# Altium footprint library LowPowerDevPCB.PcbLib: 16 footprints
Each footprint in its own frame and in the unit in brackets; x right, y up, seen from the top. Pads: shape width x height; smd on the part's side, far side on the other; paste and mask are expansions set on the pad; w line width, h text height; cw(c..) or ccw(c..) is an arc to the next point about the centre after c.
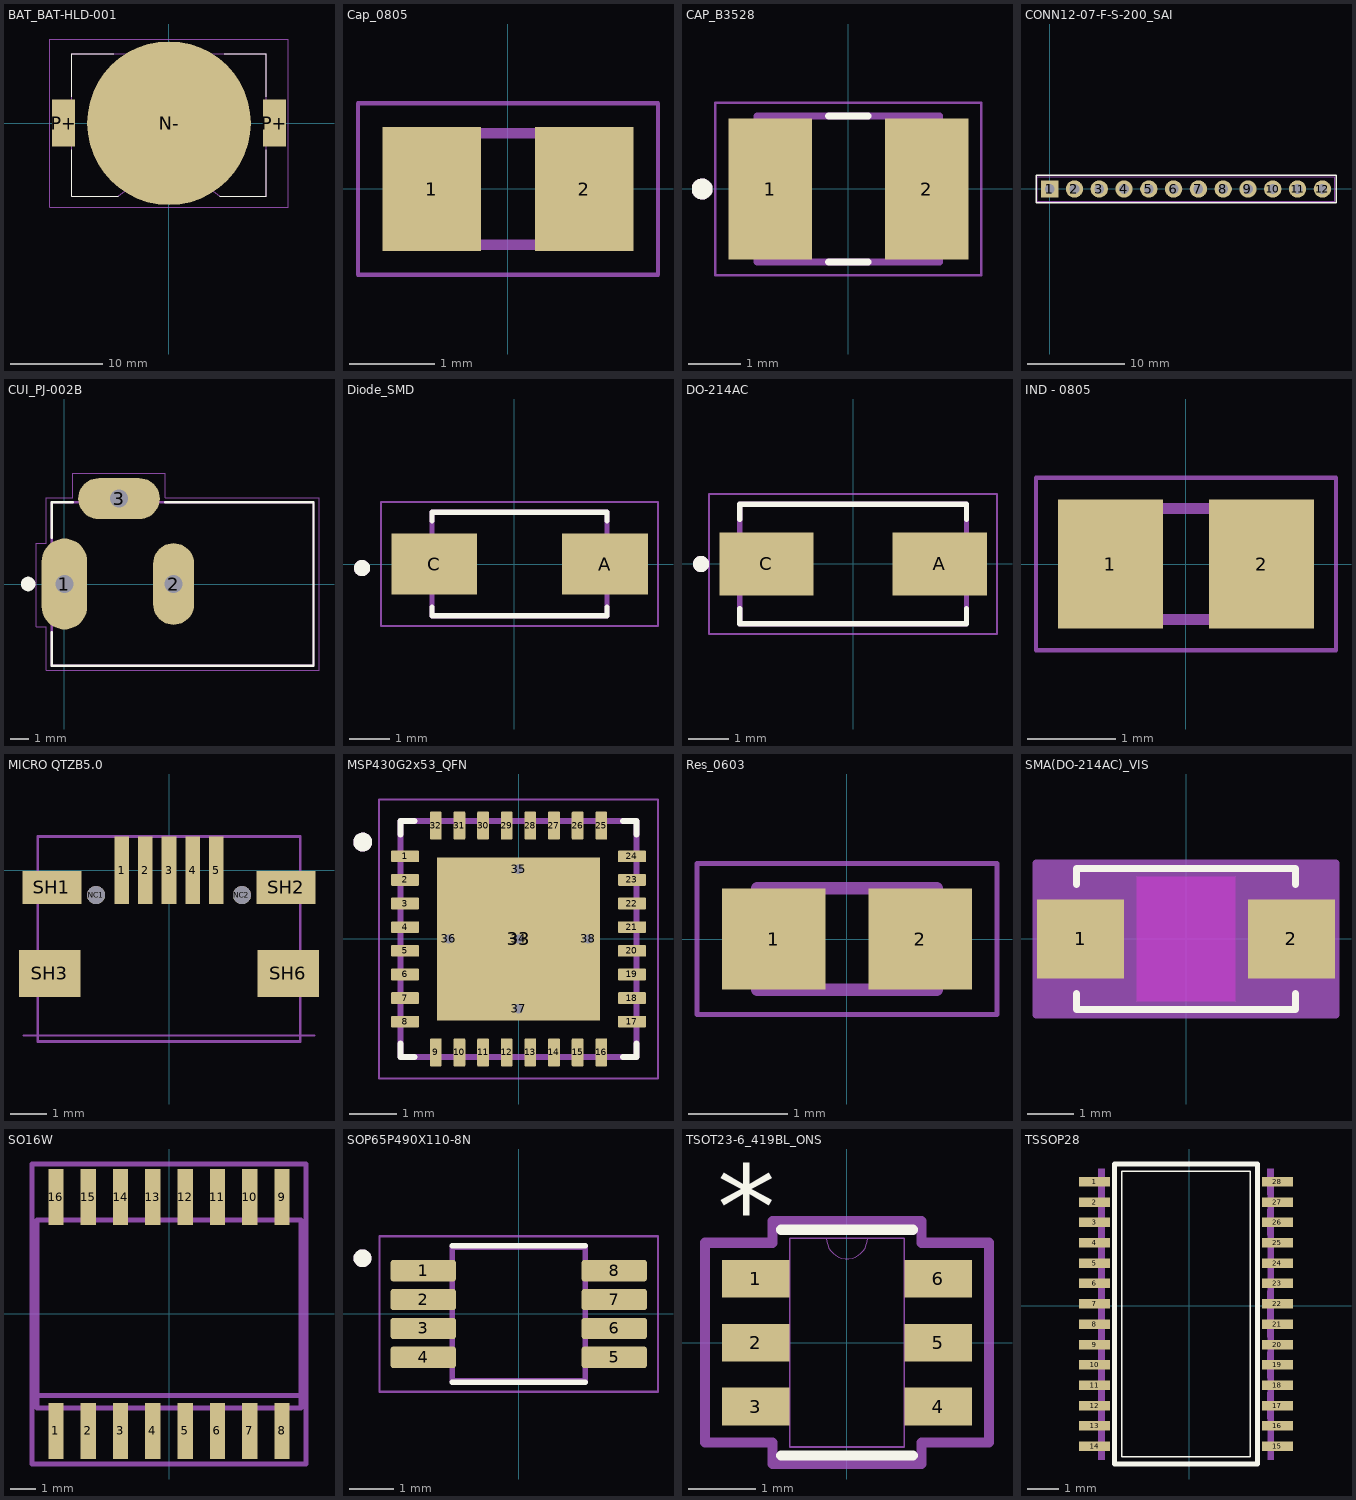
[diagram p0: the footprints below, top view; thin cyan lines are the x and y axes]

## BAT_BAT-HLD-001 [mm]
pads (3):
  round 17.8 smd paste-10: N-(0,0)
  rect 2.5x5.1 smd: P+(-11.45,0) P+(11.45,0)
Top Overlay:
  lines w0.127: -10.55,-2.87 -10.55,-7.95 -5.5,-7.95 ; -10.55,2.87 -10.55,7.55 -6,7.55 ; 5.5,-7.95 10.55,-7.95 10.55,-2.87 ; 6,7.55 10.55,7.55 10.55,2.87
Mechanical 13:
  lines w0.127: -5.5,-7.95 -10.55,-7.95 -10.55,7.55 10.55,7.55 10.55,-7.95 5.5,-7.95 ; -5.495,-7.946 cw(c0,-14.731) 0,-6 cw(c0,-14.731) 5.495,-7.946
Mechanical 15:
  lines w0.05: -12.95,-9.15 12.95,-9.15 12.95,9.15 -12.95,9.15 -12.95,-9.15
3D body "BAT-HLD-001.STEP": height 4.32, standoff 0, extent -11.43,-7.874 11.43,7.62

## Cap_0805 [mm]
pads (2):
  rect 1.15x1.45 smd: 1(-0.889,0) 2(0.889,0)
Mechanical 13:
  lines w0.127: -1,-0.65 1,-0.65 1,0.65 -1,0.65 -1,-0.65
Mechanical 15:
  lines w0.05: -1.75,-1 1.75,-1 1.75,1 -1.75,1 -1.75,-1
3D body "Cap_0805.STEP": height 0.94, standoff 0, extent -1.005,-0.625 1.005,0.625

## CAP_B3528 [mm]
pads (2):
  rect 1.6x2.7 smd: 1(-1.5,0) 2(1.5,0)
Top Overlay:
  circle w0.2: c-2.8,0 r0.1
  lines w0.127: -0.38,-1.4 0.38,-1.4 ; -0.38,1.4 0.38,1.4
Mechanical 13:
  circle w0.2: c-2.8,0 r0.1
  lines w0.127: -1.75,-1.4 -1.75,1.4 1.75,1.4 1.75,-1.4 -1.75,-1.4
Mechanical 15:
  lines w0.05: -2.55,-1.65 -2.55,1.65 2.55,1.65 2.55,-1.65 -2.55,-1.65
3D body "Cap_B_3528_Tan.STEP": height 1.9, standoff 0, extent -1.75,-1.397 1.75,1.403

## CONN12-07-F-S-200_SAI [mil]
pads (12):
  rect 70x70 hole 39: 1(0,0)
  round 70 hole 39: 2(100,0) 3(200,0) 4(300,0) 5(400,0) 6(500,0) 7(600,0) 8(700,0) 9(800,0) 10(900,0) 11(1000,0) 12(1100,0)
Top Overlay:
  lines w6: -55,-55 -55,55 1155,55 1155,-55 -55,-55
Mechanical 1:
  lines w1: -50,-50 1150,-50 1150,50 -50,50 -50,-50

## CUI_PJ-002B [mm]
pads (3):
  oval 2.5x5 hole 1 square: 1(0,0)
  oval 2.25x4.5 hole 1 square: 2(6,0)
  oval 4.5x2.25 hole 1 square: 3(3,4.7)
Top Overlay:
  circle w0.4: c-2,0 r0.2
  lines w0.127: -0.7,-2.65 -0.7,-4.5 13.7,-4.5 13.7,4.5 5.55,4.5 ; -0.7,2.55 -0.7,4.5 0.45,4.5
Mechanical 13:
  lines w0.127: -0.7,-4.5 -0.7,4.5 13.7,4.5 13.7,-4.5 -0.7,-4.5
Mechanical 15:
  lines w0.05: -1.55,-2.35 -1,-2.35 -1,-4.75 14,-4.75 14,4.75 5.55,4.75 5.55,6.1 0.45,6.1 0.45,4.75 -1,4.75 -1,2.25 -1.55,2.25 -1.55,-2.35
3D body "step_temp.STEP": height 11, standoff -3.5, extent -0.7,-4.5 13.7,4.9

## Diode_SMD [mm]
pads (2):
  rect 2.12x1.5 smd: A(2.242,0) C(-1.988,0)
Top Overlay:
  circle w0.2: c-3.773,-0.1 r0.1
  lines w0.127: -2.038,-1.07 -2.038,-1.28 2.292,-1.28 2.292,-1.07 ; -2.038,1.07 -2.038,1.28 2.292,1.28 2.292,1.07
Mechanical 13:
  circle w0.2: c-3.773,-0.1 r0.1
  lines w0.127: -2.038,-1.28 -2.038,1.28 2.292,1.28 2.292,-1.28 -2.038,-1.28
Mechanical 15:
  lines w0.05: -3.298,-1.53 -3.298,1.53 3.552,1.53 3.552,-1.53 -3.298,-1.53
3D body "step_temp.STEP": height 1.15, standoff -1.35, extent -2.443,-1.28 2.697,1.28

## DO-214AC [mm]
height 2.7
pads (2):
  rect 2.33x1.56 smd: A(2.14,0) C(-2.14,0)
Top Overlay:
  circle w0.2: c-3.755,0 r0.1
  lines w0.127: -2.8,-1.1 -2.8,-1.475 2.8,-1.475 2.8,-1.1 ; -2.8,1.1 -2.8,1.475 2.8,1.475 2.8,1.1
Mechanical 13:
  circle w0.2: c-3.755,0 r0.1
  lines w0.127: -2.8,-1.475 -2.8,1.475 2.8,1.475 2.8,-1.475 -2.8,-1.475
Mechanical 15:
  lines w0.05: -3.555,-1.725 3.555,-1.725 3.555,1.725 -3.555,1.725 -3.555,-1.725
3D body "step_temp.STEP": height 2.37, standoff 0.2, extent -2.525,-1.346 2.525,1.354

## IND - 0805 [mm]
pads (2):
  rect 1.2x1.47 smd: 1(-0.86,0) 2(0.86,0)
Mechanical 13:
  lines w0.127: -1,-0.63 -1,0.63 1,0.63 1,-0.63 -1,-0.63
Mechanical 15:
  lines w0.05: -1.708,-0.983 -1.708,0.983 1.708,0.983 1.708,-0.983 -1.708,-0.983

## MICRO QTZB5.0 [mm] "MICRO QTZB5.0"
pads (11):
  rect 0.4x1.85 smd: 1(-1.3,0) 2(-0.65,0) 3(0,0) 4(0.65,0) 5(1.3,0)
  round 0.5 hole 0.5 unplated paste+0 mask+0: NC1(-2,-0.685) NC2(2,-0.685)
  rect 1.625x0.9 smd: SH1(-3.213,-0.475) SH2(3.213,-0.475)
  rect 1.69x1.3 smd: SH3(-3.27,-2.835) SH6(3.27,-2.835)
Mechanical 13:
  lines w0.051: -4,-4.535 4,-4.535
  text "PCB EDGE" at -2.286,-4.535 h0.51
Mechanical 15:
  lines w0.076: -3.6,-4.705 3.6,-4.705 3.6,0.925 -3.6,0.925 -3.6,-4.705

## MSP430G2x53_QFN [mm] "32 PIN QFN."
pads (38):
  rrect25% 0.6x0.25 smd mask+0: 1(-2.4,1.75) 2(-2.4,1.25) 3(-2.4,0.75) 4(-2.4,0.25) 5(-2.4,-0.25) 6(-2.4,-0.75) 7(-2.4,-1.25) 8(-2.4,-1.75) 17(2.4,-1.75) 18(2.4,-1.25) 19(2.4,-0.75) 20(2.4,-0.25) 21(2.4,0.25) 22(2.4,0.75) 23(2.4,1.25) 24(2.4,1.75)
  rrect25% 0.25x0.6 smd mask+0: 9(-1.75,-2.4) 10(-1.25,-2.4) 11(-0.75,-2.4) 12(-0.25,-2.4) 13(0.25,-2.4) 14(0.75,-2.4) 15(1.25,-2.4) 16(1.75,-2.4) 25(1.75,2.4) 26(1.25,2.4) 27(0.75,2.4) 28(0.25,2.4) 29(-0.25,2.4) 30(-0.75,2.4) 31(-1.25,2.4) 32(-1.75,2.4)
  rect 3.45x3.45 smd paste-3 mask+0: 33(0,0)
  round 0.4 hole 0.2 mask+0: 34(0,0) 35(0,1.475) 36(-1.475,0) 37(0,-1.475) 38(1.475,0)
Top Overlay:
  circle w0.2: c-3.295,2.05 r0.1
  lines w0.127: -2.5,-2.205 -2.5,-2.5 -2.205,-2.5 ; -2.5,2.205 -2.5,2.5 -2.205,2.5 ; 2.205,-2.5 2.5,-2.5 2.5,-2.205 ; 2.205,2.5 2.5,2.5 2.5,2.205
Top Paste:
  region: 1.59,-1.59 0.1,-1.59 0.1,-0.1 1.59,-0.1
  region: -0.1,-1.59 -1.59,-1.59 -1.59,-0.1 -0.1,-0.1
  region: 1.59,0.1 0.1,0.1 0.1,1.59 1.59,1.59
  region: -0.1,0.1 -1.59,0.1 -1.59,1.59 -0.1,1.59
Top Solder:
  drawing of 33 lines, arcs and shapes, not listed
Mechanical 13:
  circle w0.2: c-3.295,2.05 r0.1
  lines w0.127: -2.5,-2.5 -2.5,2.5 2.5,2.5 2.5,-2.5 -2.5,-2.5
Mechanical 15:
  lines w0.05: -2.95,-2.95 -2.95,2.95 2.95,2.95 2.95,-2.95 -2.95,-2.95
3D body "MSP430G2x53_QFN.STEP": height 0.99, standoff -0.01, extent -2.5,-2.5 2.5,2.5

## Res_0603 [mm]
pads (2):
  rect 1.04x1.02 smd: 1(-0.735,0) 2(0.735,0)
Mechanical 13:
  lines w0.127: -0.9,-0.51 0.9,-0.51 0.9,0.51 -0.9,0.51 -0.9,-0.51
Mechanical 15:
  lines w0.05: -1.508,-0.761 1.508,-0.761 1.508,0.761 -1.508,0.761 -1.508,-0.761
3D body "res_0603.STEP": height 0.55, standoff 0, extent -0.8,-0.4 0.8,0.4

## SMA(DO-214AC)_VIS [mil]
pads (2):
  rect 74x67 smd paste+0 mask+0: 1(-90,0) 2(90,0)
Top Layer keep-out:
  region: -42,-53 -42,53 42,53 42,-53
Top Overlay:
  lines w6: -93.5,-46.6 -93.5,-60 93.5,-60 93.5,-46.6 ; -93.5,46.6 -93.5,60 93.5,60 93.5,46.6
Keep-Out Layer:
  region: -42,-53 -42,53 42,53 42,-53
Mechanical 13:
  lines w1: -88.5,-27.5 -61,-55 ; -88.5,27.5 -61,55 ; -104,-32.5 -104,32.5 -88.5,32.5 -88.5,-32.5 -104,-32.5 ; -88.5,-55 88.5,-55 88.5,55 -88.5,55 -88.5,-55 ; 88.5,-32.5 88.5,32.5 104,32.5 104,-32.5 88.5,-32.5
Mechanical 15:
  region: 128,-65 -128,-65 -128,65 128,65
  lines w6: -128,-65 -128,65 128,65 128,-65 -128,-65

## SO16W [mm]
pads (16):
  rect 0.6x2.2 smd: 1(-4.445,-4.6) 2(-3.175,-4.6) 3(-1.905,-4.6) 4(-0.635,-4.6) 5(0.635,-4.6) 6(1.905,-4.6) 7(3.175,-4.6) 8(4.445,-4.6) 9(4.445,4.6) 10(3.175,4.6) 11(1.905,4.6) 12(0.635,4.6) 13(-0.635,4.6) 14(-1.905,4.6) 15(-3.175,4.6) 16(-4.445,4.6)
Mechanical 13:
  region: -4.2,3.8 -4.69,3.8 -4.69,5.32 -4.2,5.32
  region: -2.93,3.8 -3.42,3.8 -3.42,5.32 -2.93,5.32
  region: -1.66,3.8 -2.15,3.8 -2.15,5.32 -1.66,5.32
  region: -0.39,3.8 -0.88,3.8 -0.88,5.32 -0.39,5.32
  region: 0.88,3.8 0.39,3.8 0.39,5.32 0.88,5.32
  region: 2.15,3.8 1.66,3.8 1.66,5.32 2.15,5.32
  region: 3.42,3.8 2.93,3.8 2.93,5.32 3.42,5.32
  region: 4.69,3.8 4.2,3.8 4.2,5.32 4.69,5.32
  region: 4.69,-5.32 4.2,-5.32 4.2,-3.8 4.69,-3.8
  region: 3.42,-5.32 2.93,-5.32 2.93,-3.8 3.42,-3.8
  region: 2.15,-5.32 1.66,-5.32 1.66,-3.8 2.15,-3.8
  region: 0.88,-5.32 0.39,-5.32 0.39,-3.8 0.88,-3.8
  region: -0.39,-5.32 -0.88,-5.32 -0.88,-3.8 -0.39,-3.8
  region: -1.66,-5.32 -2.15,-5.32 -2.15,-3.8 -1.66,-3.8
  region: -2.93,-5.32 -3.42,-5.32 -3.42,-3.8 -2.93,-3.8
  region: -4.2,-5.32 -4.69,-5.32 -4.69,-3.8 -4.2,-3.8
  lines w0.203: -5.19,-3.2 5.19,-3.2 ; -5.19,-3.2 -5.19,3.7 5.19,3.7 5.19,-3.2 ; -5.19,-3.2 -5.19,-3.7 5.19,-3.7 5.19,-3.2
Mechanical 15:
  lines w0.2: -5.395,-5.9 -5.395,5.9 5.395,5.9 5.395,-5.9 -5.395,-5.9
3D body "step_temp.STEP": height 2.65, standoff 0, extent -5.15,-5.162 5.15,5.162

## SOP65P490X110-8N [mm]
pads (8):
  rrect25% 1.47x0.48 smd: 1(-2.15,0.975) 2(-2.15,0.325) 3(-2.15,-0.325) 4(-2.15,-0.975) 5(2.15,-0.975) 6(2.15,-0.325) 7(2.15,0.325) 8(2.15,0.975)
Top Overlay:
  circle w0.2: c-3.52,1.255 r0.1
  lines w0.127: -1.5,-1.535 1.5,-1.535 ; -1.5,1.535 1.5,1.535
Mechanical 13:
  circle w0.2: c-3.52,1.255 r0.1
  lines w0.127: -1.5,-1.5 1.5,-1.5 1.5,1.5 -1.5,1.5 -1.5,-1.5
Mechanical 15:
  lines w0.05: -3.135,-1.75 3.135,-1.75 3.135,1.75 -3.135,1.75 -3.135,-1.75
3D body "step_temp.STEP": height 1.1, standoff 0, extent -2.45,-1.5 2.45,1.5

## TSOT23-6_419BL_ONS [mil]
pads (6):
  rect 39.5x22 smd paste+0 mask+0: 1(-53.25,37.4) 2(-53.25,0) 3(-53.25,-37.4) 4(53.25,-37.4) 5(53.25,0) 6(53.25,37.4)
Top Overlay:
  lines w6: -38.5,-66 38.5,-66 ; -38.5,66 38.5,66
  text "*" at -75.75,54.4 h50
Mechanical 13:
  lines w0: -12,61 ccw(c0,61) 12,61
  lines w1: -59,-47.4 -33.5,-47.4 -33.5,-27.4 -59,-27.4 -59,-47.4 ; -59,-10 -33.5,-10 -33.5,10 -59,10 -59,-10 ; -59,27.4 -33.5,27.4 -33.5,47.4 -59,47.4 -59,27.4 ; -33.5,-61 -33.5,61 33.5,61 33.5,-61 -33.5,-61 ; 33.5,-47.4 59,-47.4 59,-27.4 33.5,-27.4 33.5,-47.4 ; 33.5,-10 59,-10 59,10 33.5,10 33.5,-10 ; 33.5,27.4 59,27.4 59,47.4 33.5,47.4 33.5,27.4
  text "*" at -31,8 h50
Mechanical 15:
  lines w6: -83,-58.4 -43.5,-58.4 -43.5,-71 43.5,-71 43.5,-58.4 83,-58.4 83,58.4 43.5,58.4 43.5,71 -43.5,71 -43.5,58.4 -83,58.4 -83,-58.4
3D body "TSOT23-6_419BL_ONS.step": height 43.11, standoff 0, extent -59.02,-60.98 59.02,60.98

## TSSOP28 [mil]
pads (28):
  rect 39x12 smd: 1(-119.01,155.71) 2(-119.01,130.12) 3(-119.01,104.53) 4(-119.01,78.94) 5(-119.01,53.35) 6(-119.01,27.76) 7(-119.01,2.17) 8(-119.01,-23.42) 9(-119.01,-49.02) 10(-119.01,-74.61) 11(-119.01,-100.2) 12(-119.01,-125.79) 13(-119.01,-151.38) 14(-119.01,-176.97) 15(110.74,-176.97) 16(110.74,-151.38) 17(110.74,-125.79) 18(110.74,-100.2) 19(110.74,-74.61) 20(110.74,-49.02) 21(110.74,-23.42) 22(110.74,2.17) 23(110.74,27.76) 24(110.74,53.35) 25(110.74,78.94) 26(110.74,104.53) 27(110.74,130.12) 28(110.74,155.71)
Top Overlay:
  lines w2: -85.01,-190.2 -85.01,168.94 76.74,168.94 76.74,-190.2 -85.01,-190.2
  lines w6: -94.01,-199.2 -94.01,177.94 85.74,177.94 85.74,-199.2 -94.01,-199.2
Mechanical 13:
  region: -106.51,139.37 -114.64,139.37 -114.64,172.21 -106.51,172.21
  region: -106.51,113.73 -114.62,113.73 -114.62,146.62 -106.51,146.62
  region: -106.51,88.2 -114.73,88.2 -114.73,121.03 -106.51,121.03
  region: -106.51,62.54 -114.7,62.54 -114.7,95.44 -106.51,95.44
  region: -106.51,36.87 -114.59,36.87 -114.59,69.85 -106.51,69.85
  region: -106.51,11.28 -114.72,11.28 -114.72,44.26 -106.51,44.26
  region: -106.51,-14.36 -114.7,-14.36 -114.7,18.67 -106.51,18.67
  region: -106.51,-40 -114.72,-40 -114.72,-6.93 -106.51,-6.93
  region: -106.51,-65.53 -114.54,-65.53 -114.54,-32.52 -106.51,-32.52
  region: -106.51,-91.18 -114.59,-91.18 -114.59,-58.11 -106.51,-58.11
  region: -106.51,-116.75 -114.56,-116.75 -114.56,-83.7 -106.51,-83.7
  region: -106.51,-142.32 -114.53,-142.32 -114.53,-109.29 -106.51,-109.29
  region: -106.51,-168.06 -114.63,-168.06 -114.63,-134.88 -106.51,-134.88
  region: -106.51,-193.66 -114.62,-193.66 -114.62,-160.47 -106.51,-160.47
  region: 106.24,-193.66 98.33,-193.66 98.33,-160.47 106.24,-160.47
  region: 106.24,-168.17 98.41,-168.17 98.41,-134.88 106.24,-134.88
  region: 106.24,-142.32 98.26,-142.32 98.26,-109.29 106.24,-109.29
  region: 106.24,-116.8 98.32,-116.8 98.32,-83.7 106.24,-83.7
  region: 106.24,-91.17 98.31,-91.17 98.31,-58.11 106.24,-58.11
  region: 106.24,-65.59 98.35,-65.59 98.35,-32.52 106.24,-32.52
  region: 106.24,-39.95 98.29,-39.95 98.29,-6.93 106.24,-6.93
  region: 106.24,-14.34 98.3,-14.34 98.3,18.67 106.24,18.67
  region: 106.24,11.27 98.34,11.27 98.34,44.26 106.24,44.26
  region: 106.24,36.91 98.42,36.91 98.42,69.85 106.24,69.85
  region: 106.24,62.52 98.36,62.52 98.36,95.44 106.24,95.44
  region: 106.24,88.08 98.29,88.08 98.29,121.03 106.24,121.03
  region: 106.24,113.77 98.37,113.77 98.37,146.62 106.24,146.62
  region: 106.24,139.26 98.28,139.26 98.28,172.21 106.24,172.21